# EAGLE library part TPS6120X (library .packages(ti))
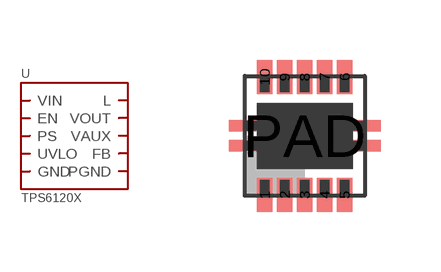
[diagram p8: symbol with the pads of DRC; footprint DRC]

Designator prefix -

## TPS6120X  [DRC]
1  VAUX
2  VOUT
3  L
4  PGND
5  VIN
6  EN
7  UVLO
8  PS
9  GND
10  FB
PAD  PGND

## Footprint DRC (pad centres in mm)
smd 0.38 x 0.85: 1 -1,-1.475; 2 -0.5,-1.475; 3 0,-1.475; 4 0.5,-1.475; 5 1,-1.475; 6 1,1.475; 7 0.5,1.475; 8 0,1.475; 9 -0.5,1.475; 10 -1,1.475
smd 2.4 x 1.65: PAD 0,0